# Altium footprint library WE-LPF.PcbLib: 2 footprints
Each footprint in its own frame and in the unit in brackets; x right, y up, seen from the top. Pads: shape width x height; smd on the part's side, far side on the other; paste and mask are expansions set on the pad; w line width, h text height; cw(c..) or ccw(c..) is an arc to the next point about the centre after c.
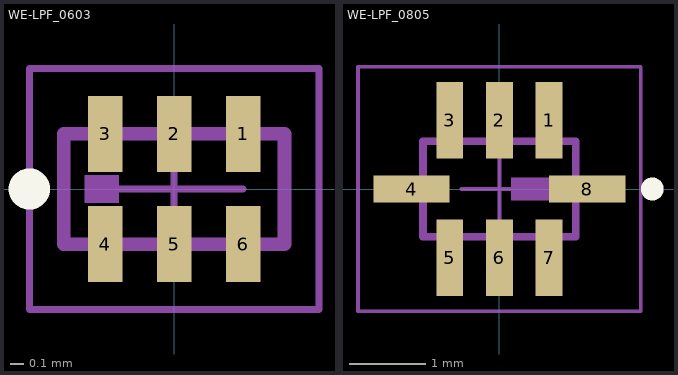
[diagram p0: the footprints below, top view; thin cyan lines are the x and y axes]

## WE-LPF_0603 [mm] "Multilayer Chip Low-Pass Filter, body 1.6x0.8mm"
height 0.6
pads (6):
  rect 0.25x0.55 smd: 1(0.5,0.4) 2(0,0.4) 3(-0.5,0.4) 4(-0.5,-0.4) 5(0,-0.4) 6(0.5,-0.4)
Top Overlay:
  circle w0.15: c-1.05,0 r0.075
Top Designator:
  text ".Designator" at -2.499,-0.167 h0.5
Top Component Outline:
  rectangle: -0.65,-0.1 -0.4,0.1
  lines w0.1: -0.8,-0.4 -0.8,0.4 0.8,0.4 0.8,-0.4 -0.8,-0.4
Top Courtyard:
  lines w0.05: -0.5,0 0.5,0 ; 0,-0.5 0,0.5 ; -1.05,-0.875 1.05,-0.875 1.05,0.875 -1.05,0.875 -1.05,-0.875
3D body "STEP-WE-LPF-0603-rev1.stp": height 0.6, standoff 0, extent -0.8,-0.4 0.8,0.4

## WE-LPF_0805 [mm] "Multilayer Chip Low-Pass Filter, body 2x1.25mm"
height 0.95
pads (8):
  rect 0.35x1 smd: 1(0.65,0.9) 2(0,0.9) 3(-0.65,0.9) 5(-0.65,-0.9) 6(0,-0.9) 7(0.65,-0.9)
  rect 1x0.35 smd: 4(-1.15,0) 8(1.15,0)
Top Overlay:
  circle w0.15: c2,0 r0.075
Top Designator:
  text ".Designator" at -2.499,-0.167 h0.5
Top Component Outline:
  rectangle: 0.15,-0.15 0.7,0.15
  lines w0.1: -1,-0.625 -1,0.625 1,0.625 1,-0.625 -1,-0.625
Top Courtyard:
  lines w0.05: -0.5,0 0.5,0 ; 0,-0.5 0,0.5 ; -1.85,-1.6 -1.85,1.6 1.85,1.6 1.85,-1.6 -1.85,-1.6
3D body "STEP-WE-LPF-0805-rev1.stp": height 0.9, standoff 0.05, extent -1,-0.625 1,0.625